# Altium footprint library PCB - IND - LQH43PN4R7M26L.PCBLIB: 1 footprints
Each footprint in its own frame and in the unit in brackets; x right, y up, seen from the top. Pads: shape width x height; smd on the part's side, far side on the other; paste and mask are expansions set on the pad; w line width, h text height; cw(c..) or ccw(c..) is an arc to the next point about the centre after c.
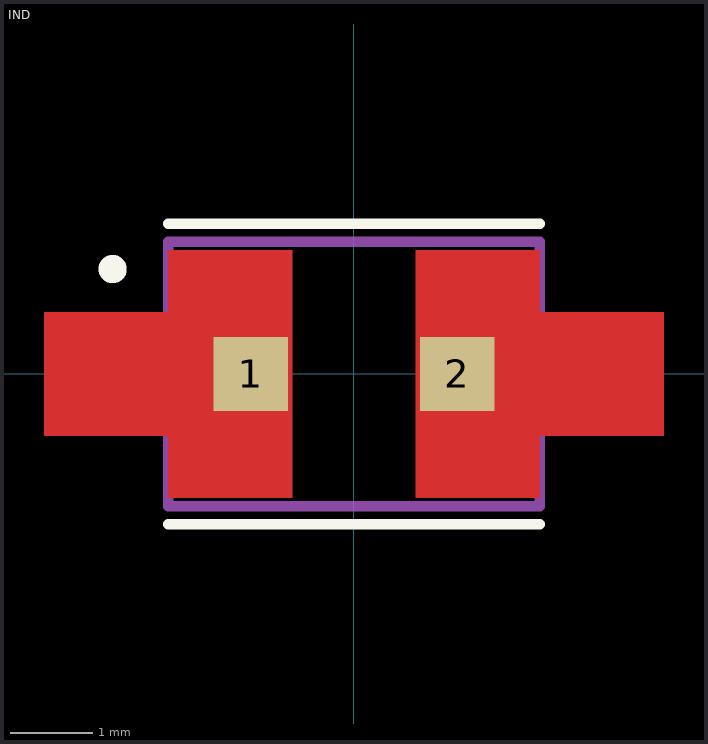
[diagram p0: the footprint, top view; thin cyan lines are the x and y axes]

## IND [mm]
pads (2):
  rect 0.9x0.9 smd paste-1 mask+0: 1(-1.25,0) 2(1.25,0)
Top Layer:
  region: 2.25,0.75 3.75,0.75 3.75,-0.75 2.25,-0.75 2.25,-1.5 0.75,-1.5 0.75,1.5 2.25,1.5
  region: -0.75,-1.5 -2.25,-1.5 -2.25,-0.75 -3.75,-0.75 -3.75,0.75 -2.25,0.75 -2.25,1.5 -0.75,1.5
Top Overlay:
  circle w0.254: c-2.921,1.27 r0.044
  lines w0.127: -2.25,-1.82 2.25,-1.82 ; -2.25,1.82 2.25,1.82
Top Paste:
  region: 2.25,0.75 3.75,0.75 3.75,-0.75 2.25,-0.75 2.25,-1.5 0.75,-1.5 0.75,1.5 2.25,1.5
  region: -0.75,-1.5 -2.25,-1.5 -2.25,-0.75 -3.75,-0.75 -3.75,0.75 -2.25,0.75 -2.25,1.5 -0.75,1.5
Top Solder:
  region: 2.35,0.85 3.85,0.85 3.85,-0.85 2.35,-0.85 2.35,-1.6 0.65,-1.6 0.65,1.6 2.35,1.6
  region: -0.65,-1.6 -2.35,-1.6 -2.35,-0.85 -3.85,-0.85 -3.85,0.85 -2.35,0.85 -2.35,1.6 -0.65,1.6
Top Value (Mech13):
  lines w0.127: -2.25,-1.6 -2.25,1.6 2.25,1.6 2.25,-1.6 -2.25,-1.6
3D body "LQH43PN4R7M26L.STEP": height 2.8, standoff 0, extent -2.25,-1.6 2.25,1.6